# EAGLE library part RFD22301 (library Pollux)
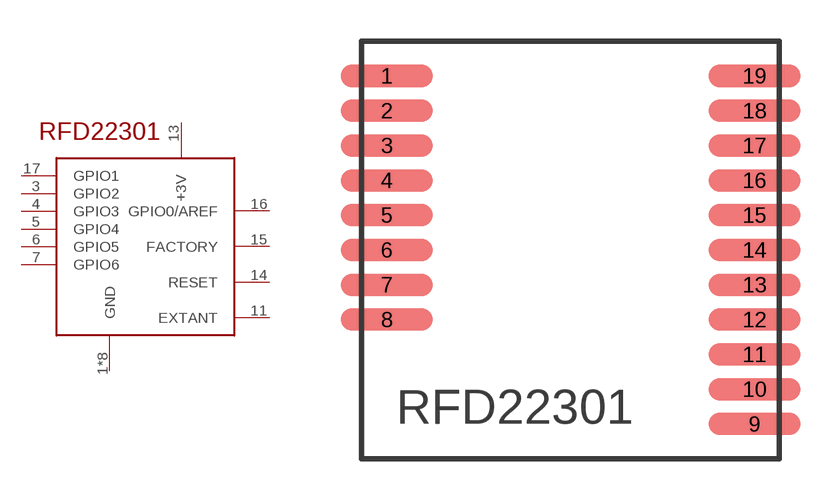
[diagram p0: symbol with the pads of RFD22301; footprint RFD22301]

Designator prefix -

## RFD22301  [RFD22301]
1  GND
2  GND
3  GPIO2
4  GPIO3
5  GPIO4
6  GPIO5
7  GPIO6
8  GND
9  GND
10  GND
11  EXTANT
12  GND
13  +3V
14  RESET
15  FACTORY
16  GPIO0/AREF
17  GPIO1
18  GND
19  GND

## Footprint RFD22301 (pad centres in mm)
smd 3.353 x 0.813: 1 0.925,13.97; 2 0.925,12.7; 3 0.925,11.43; 4 0.925,10.16; 5 0.925,8.89; 6 0.925,7.62; 7 0.925,6.35; 8 0.925,5.08; 9 14.336,1.27; 10 14.336,2.54; 11 14.336,3.81; 12 14.336,5.08; 13 14.336,6.35; 14 14.336,7.62; 15 14.336,8.89; 16 14.336,10.16; 17 14.336,11.43; 18 14.336,12.7; 19 14.336,13.97